# Altium footprint library CMR_Resistors_Capacitors_and_Inductors.PcbLib: 47 footprints (part 3 of 3)
Each footprint in its own frame and in the unit in brackets; x right, y up, seen from the top. Pads: shape width x height; smd on the part's side, far side on the other; paste and mask are expansions set on the pad; w line width, h text height; cw(c..) or ccw(c..) is an arc to the next point about the centre after c.
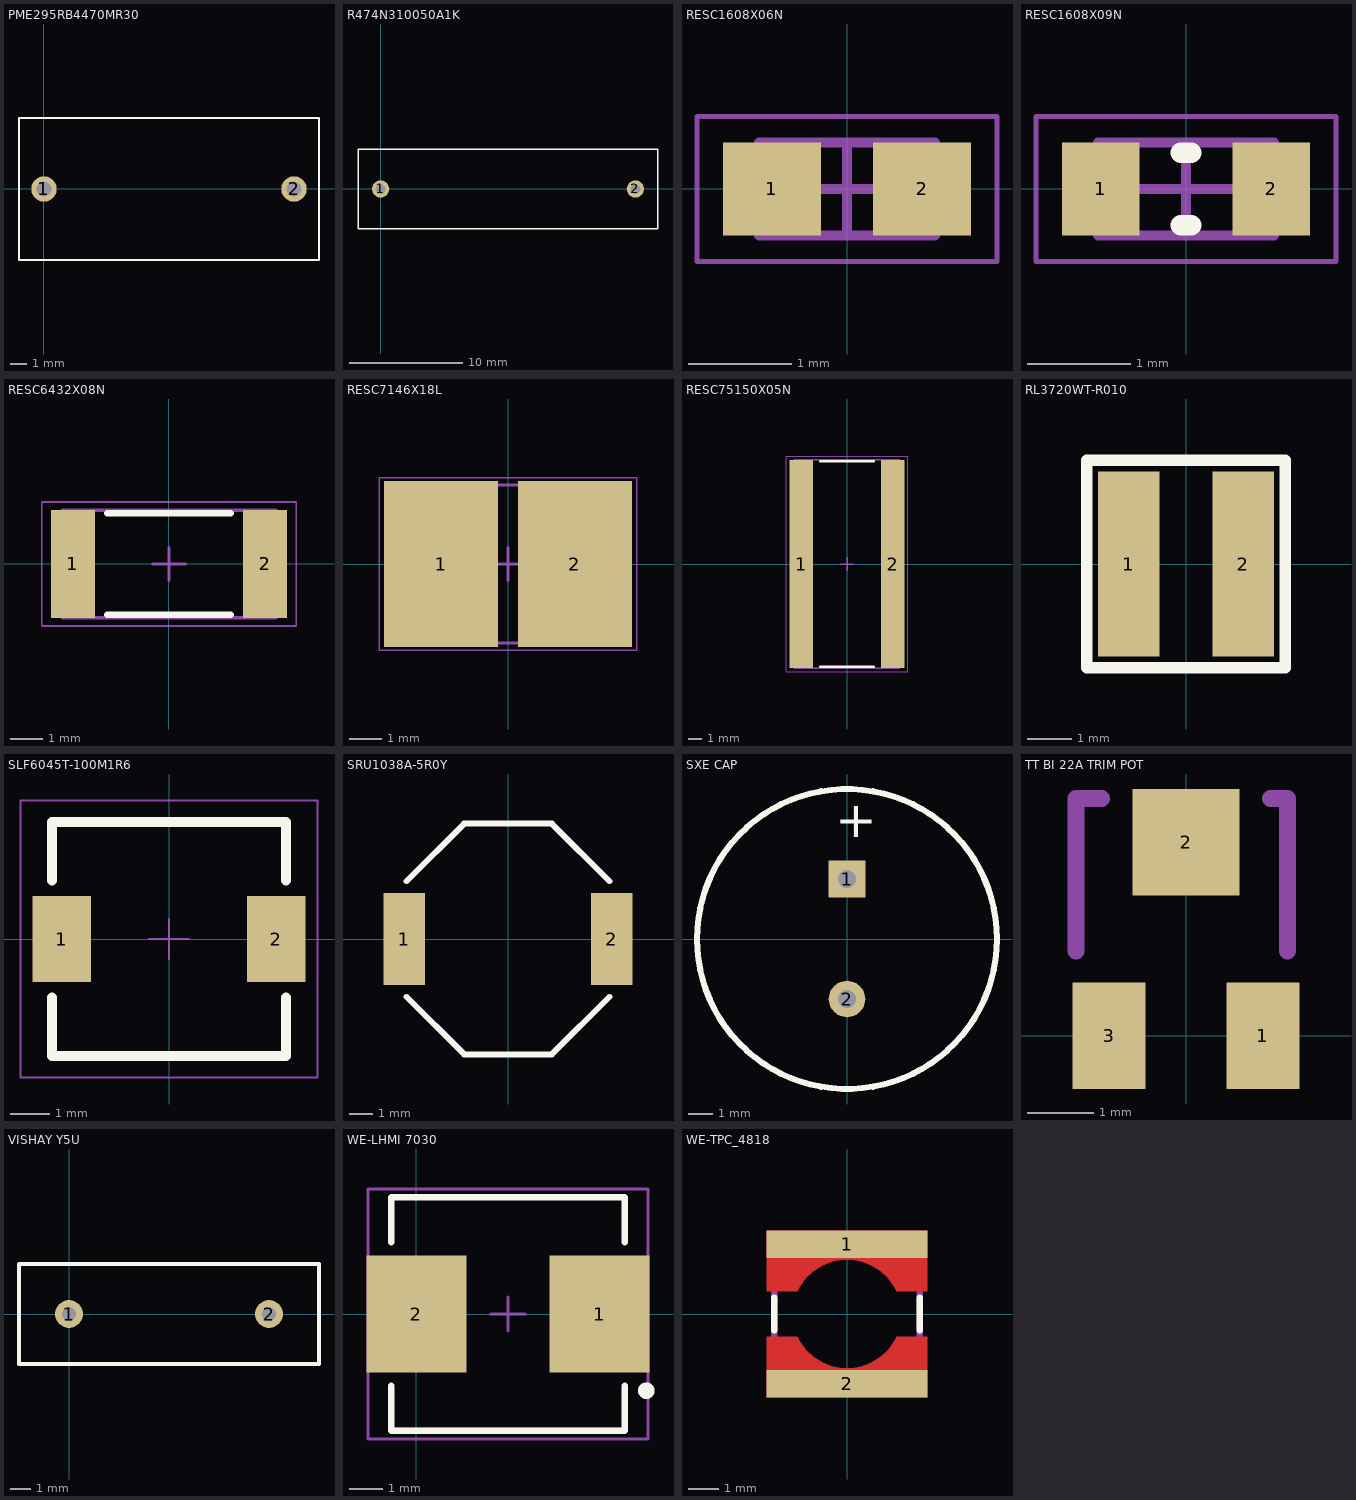
[diagram p2: the footprints below, top view; thin cyan lines are the x and y axes]

## PME295RB4470MR30 [mil]
height 629.92
pads (2):
  round 60 hole 35.43: 1(0,0) 2(590.55,0)
Top Overlay:
  lines w5: -59.06,-167.32 -59.06,167.32 649.61,167.32 649.61,-167.32 -59.06,-167.32
3D body "P295BQ472M440A.step": height 610.24, standoff -1397.64, extent -58.07,-166.53 650.59,168.31

## R474N310050A1K [mil]
height 629.92
pads (2):
  round 60 hole 35.43: 1(0,0) 2(885.83,0)
Top Overlay:
  lines w5: -78.74,-137.8 964.57,-137.8 964.57,137.8 -78.74,137.8 -78.74,-137.8
3D body "R474N310050A1K.step": height 633.86, standoff -1062.99, extent -82.68,-141.93 972.44,141.73

## RESC1608X06N [mm] "Chip Resistor, 2-Leads, Body 1.60x0.80mm, IPC Medium Density"
height 0.55
pads (2):
  rect 0.95x0.9 smd: 1(-0.725,0) 2(0.725,0)
Mechanical 13:
  lines w0.1: -0.85,-0.45 0.85,-0.45 0.85,0.45 -0.85,0.45 -0.85,-0.45
Mechanical 15:
  lines w0.05: -1.45,-0.7 1.45,-0.7 1.45,0.7 -1.45,0.7 -1.45,-0.7
  lines w0.1: -0.45,0 0.45,0 ; 0,-0.45 0,0.45
3D body "RESC1608X06N.step": height 0.55, standoff 0, extent -0.85,-0.45 0.85,0.45

## RESC1608X09N [mm] "Chip Resistor, 2-Leads, Body 1.60x0.80mm, IPC Medium Density"
height 0.9
pads (2):
  rect 0.75x0.9 smd: 1(-0.825,0) 2(0.825,0)
Top Overlay:
  lines w0.2: -0.05,-0.35 0.05,-0.35 ; -0.05,0.35 0.05,0.35
Assembly Top:
  lines w0.1: -0.85,-0.45 -0.85,0.45 0.85,0.45 0.85,-0.45 -0.85,-0.45
Courtyard Top:
  lines w0.05: -1.45,-0.7 -1.45,0.7 1.45,0.7 1.45,-0.7 -1.45,-0.7
  lines w0.1: -0.45,0 0.45,0 ; 0,-0.45 0,0.45
3D body "RESC1608X09N.step": height 0.9, standoff 0, extent -0.85,-0.45 0.85,0.45

## RESC6432X08N [mm] "Chip Resistor, 2-Leads, Body 6.35x3.15mm, IPC Medium Density"
height 0.84
pads (2):
  rect 1.35x3.3 smd: 1(-2.95,0) 2(2.95,0)
Top Overlay:
  lines w0.2: -1.9,-1.55 1.9,-1.55 ; -1.9,1.55 1.9,1.55
Assembly Top:
  lines w0.1: -3.275,-1.65 -3.275,1.65 3.275,1.65 3.275,-1.65 -3.275,-1.65
Courtyard Top:
  lines w0.05: -3.9,-1.9 -3.9,1.9 3.9,1.9 3.9,-1.9 -3.9,-1.9
  lines w0.1: -0.5,0 0.5,0 ; 0,-0.5 0,0.5
3D body "RESC6432X08N.step": height 0.84, standoff 0, extent -3.275,-1.65 3.275,1.65

## RESC7146X18L [mm] "Chip Resistor, 2-Leads, Body 7.10x4.60mm, IPC High Density"
height 1.75
pads (2):
  rect 3.5x5.1 smd: 1(-2.055,0) 2(2.055,0)
Mechanical 13:
  lines w0.1: -3.675,-2.425 3.675,-2.425 3.675,2.425 -3.675,2.425 -3.675,-2.425
Mechanical 15:
  lines w0.05: -3.95,-2.65 3.95,-2.65 3.95,2.65 -3.95,2.65 -3.95,-2.65
  lines w0.1: -0.5,0 0.5,0 ; 0,-0.5 0,0.5
3D body: height 1.75, standoff 0, extent 0.495,-2.425 3.675,2.425
3D body: height 1.75, standoff 0, extent -3.675,-2.425 -0.495,2.425
3D body: height 1.75, standoff 0, extent -0.495,-2.425 0.495,2.425

## RESC75150X05N [mm] "Chip Resistor, 2-Leads, Body 7.50x15.00mm, IPC Medium Density"
height 0.5
pads (2):
  rect 1.7x15.2 smd: 1(-3.35,0) 2(3.35,0)
Top Overlay:
  lines w0.2: -1.95,-7.5 1.95,-7.5 ; -1.95,7.5 1.95,7.5
Mechanical 13:
  lines w0.1: -3.85,-7.6 -3.85,7.6 3.85,7.6 3.85,-7.6 -3.85,-7.6
Mechanical 15:
  lines w0.05: -4.45,-7.85 -4.45,7.85 4.45,7.85 4.45,-7.85 -4.45,-7.85
  lines w0.1: -0.5,0 0.5,0 ; 0,-0.5 0,0.5
3D body "RESC75150X05N.step": height 0.5, standoff 0, extent -3.85,-7.6 3.85,7.6

## RL3720WT-R010 [mm]
pads (2):
  rect 1.4x4.2 smd: 1(-1.3,0) 2(1.3,0)
Top Overlay:
  lines w0.254: -2.25,-2.35 -2.25,2.35 2.25,2.35 2.25,-2.35 -2.25,-2.35
3D body: height 0.7, standoff 0, extent -1,-1.875 1,1.875

## SLF6045T-100M1R6 [mm] "FIXED IND 10UH 1.6A 39 MOHM SMD"
pads (2):
  rect 1.5x2.2 smd: 1(-2.75,0) 2(2.75,0)
Top Overlay:
  lines w0.254: -3,-1.5 -3,-3 3,-3 3,-1.5 ; -3,1.5 -3,3 3,3 3,1.5
Mechanical 15:
  lines w0.051: -0.508,0 0.508,0 ; 0,-0.508 0,0.508 ; -3.81,-3.556 0,-3.556 3.81,-3.556 3.81,1.27 3.81,3.556 -0.254,3.556 -3.81,3.556 -3.81,0.254 -3.81,-3.556
3D body: height 1, standoff 0, extent -3,-3 3,3
3D body: height 4.5, standoff 1, extent -3,-2.999 3,2.999
3D body: height 4.55, standoff 4.5, extent -3,-2.999 3,2.999

## SRU1038A-5R0Y [mm] "5uH 4.8A Fixed Inductor"
height 3.8
pads (2):
  rect 1.8x4 smd: 1(-4.5,0) 2(4.5,0)
Top Overlay:
  lines w0.254: -4.4,-2.5 -1.9,-5 0,-5 1.9,-5 4.4,-2.5 ; -4.4,2.5 -1.9,5 -1.5,5 1.9,5 4.4,2.5
3D body: height 3.8, standoff 0.2, extent -5,-5 5,5

## SXE CAP [mil] "SXE series capacitors, 12x20"
height 787.4
pads (2):
  rect 60x60 hole 30: 1(0,98.43)
  round 60 hole 30: 2(0,-98.43)
Top Overlay:
  circle w10: c0,0 r246.06
  text "+" at -19.68,167.32 h60
3D body: height 807.09, standoff 19.68, extent -245.65,-245.96 246.07,245.96

## TT BI 22A TRIM POT [mm] "Model 22A (22AR100KLFTR)"
pads (3):
  rect 1.09x1.6 smd: 1(1.155,0) 3(-1.155,0)
  rect 1.6x1.6 smd: 2(0,2.9)
Mechanical 1:
  lines w0.254: -1.651,1.27 -1.651,3.556 -1.27,3.556 ; 1.27,3.556 1.524,3.556 1.524,1.27
3D body "22a.stp": height 2.22, standoff 0.01, extent -1.6,-0.381 1.6,3.129

## VISHAY Y5U [mm]
pads (2):
  round 1.4 hole 0.7: 1(0,0) 2(10,0)
Top Overlay:
  lines w0.2: -2.5,-2.5 0,-2.5 10,-2.5 12.5,-2.5 12.5,2.5 10,2.5 0,2.5 -2.5,2.5 -2.5,-2.5
3D body: height 20, standoff 4, extent -3,-2.5 13,2.5

## WE-LHMI 7030 [mm] "Weurth Power Inductor"
pads (2):
  rect 3x3.5 smd: 1(5.5,0) 2(0,0)
Top Overlay:
  circle w0.25: c6.9,-2.3 r0.125
  lines w0.2: -0.75,-2.15 -0.75,-3.5 6.25,-3.5 6.25,-2.15 ; -0.75,2.15 -0.75,3.5 6.25,3.5 6.25,2.15
Mechanical 13:
  lines w0.1: -0.7,-3.45 6.2,-3.45
Mechanical 15:
  lines w0.1: 2.25,0 3.25,0 ; 2.75,-0.5 2.75,0.5 ; -1.45,-3.75 6.95,-3.75 6.95,3.75 -1.45,3.75 -1.45,-3.75
3D body "WE-LHMI_7030.stp": height 2.8, standoff 0, extent -0.9,-3.3 6.4,3.3

## WE-TPC_4818 [mm] "Power Inductor, SMD, 2-Leads, body 4.8x4.8mm"
height 1.8
pads (2):
  rect 5.3x0.9 smd paste-403.566 mask-403.566: 1(0,2.3) 2(0,-2.3)
Top Layer:
  region: 2.65,-0.75 1.636,-0.75 1.558,-0.902 1.359,-1.18 1.112,-1.416 0.824,-1.6 0.506,-1.727 0.171,-1.792 -0.171,-1.792 -0.507,-1.727 -0.824,-1.6 -1.112,-1.416 -1.359,-1.18 -1.558,-0.902 -1.636,-0.75 -2.65,-0.75 -2.65,-2.75 2.65,-2.75
  region: -2.65,0.75 -1.636,0.75 -1.558,0.902 -1.359,1.18 -1.112,1.416 -0.824,1.6 -0.506,1.727 -0.171,1.792 0.171,1.792 0.507,1.727 0.824,1.6 1.112,1.416 1.359,1.18 1.558,0.902 1.636,0.75 2.65,0.75 2.65,2.75 -2.65,2.75
Top Overlay:
  lines w0.2: -2.4,-0.55 -2.4,0.55 ; 2.4,-0.55 2.4,0.55
Mechanical 13:
  lines w0.2: -2.4,-2.4 -2.4,2.4 2.4,2.4 2.4,-2.4 -2.4,-2.4
3D body "744042xxx.stp": height 1.8, standoff 0, extent -2.4,-2.4 2.4,2.4